# EAGLE library part DRV8838 (library Cerebro-library)
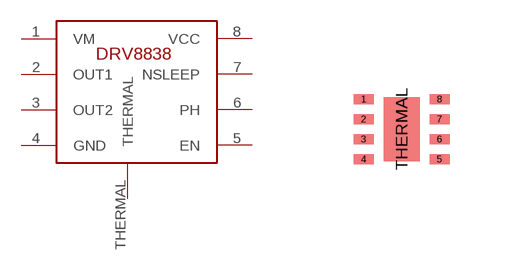
[diagram p10: symbol with the pads of WSON-8; footprint WSON-8]

Designator prefix -

## DRV8838  [WSON-8]
1  VM
2  OUT1
3  OUT2
4  GND
5  EN
6  PH
7  NSLEEP
8  VCC
THERMAL  THERMAL

## Footprint WSON-8 (pad centres in mm)
smd 0.5 x 0.25: 1 -0.95,0.75; 2 -0.95,0.25; 3 -0.95,-0.25; 4 -0.95,-0.75; 5 0.95,-0.75; 6 0.95,-0.25; 7 0.95,0.25; 8 0.95,0.75
smd 0.9 x 1.6: THERMAL 0,0